# Altium footprint library ZERORULERV2.PcbLib: 78 footprints (part 5 of 5)
Each footprint in its own frame and in the unit in brackets; x right, y up, seen from the top. Pads: shape width x height; smd on the part's side, far side on the other; paste and mask are expansions set on the pad; w line width, h text height; cw(c..) or ccw(c..) is an arc to the next point about the centre after c.
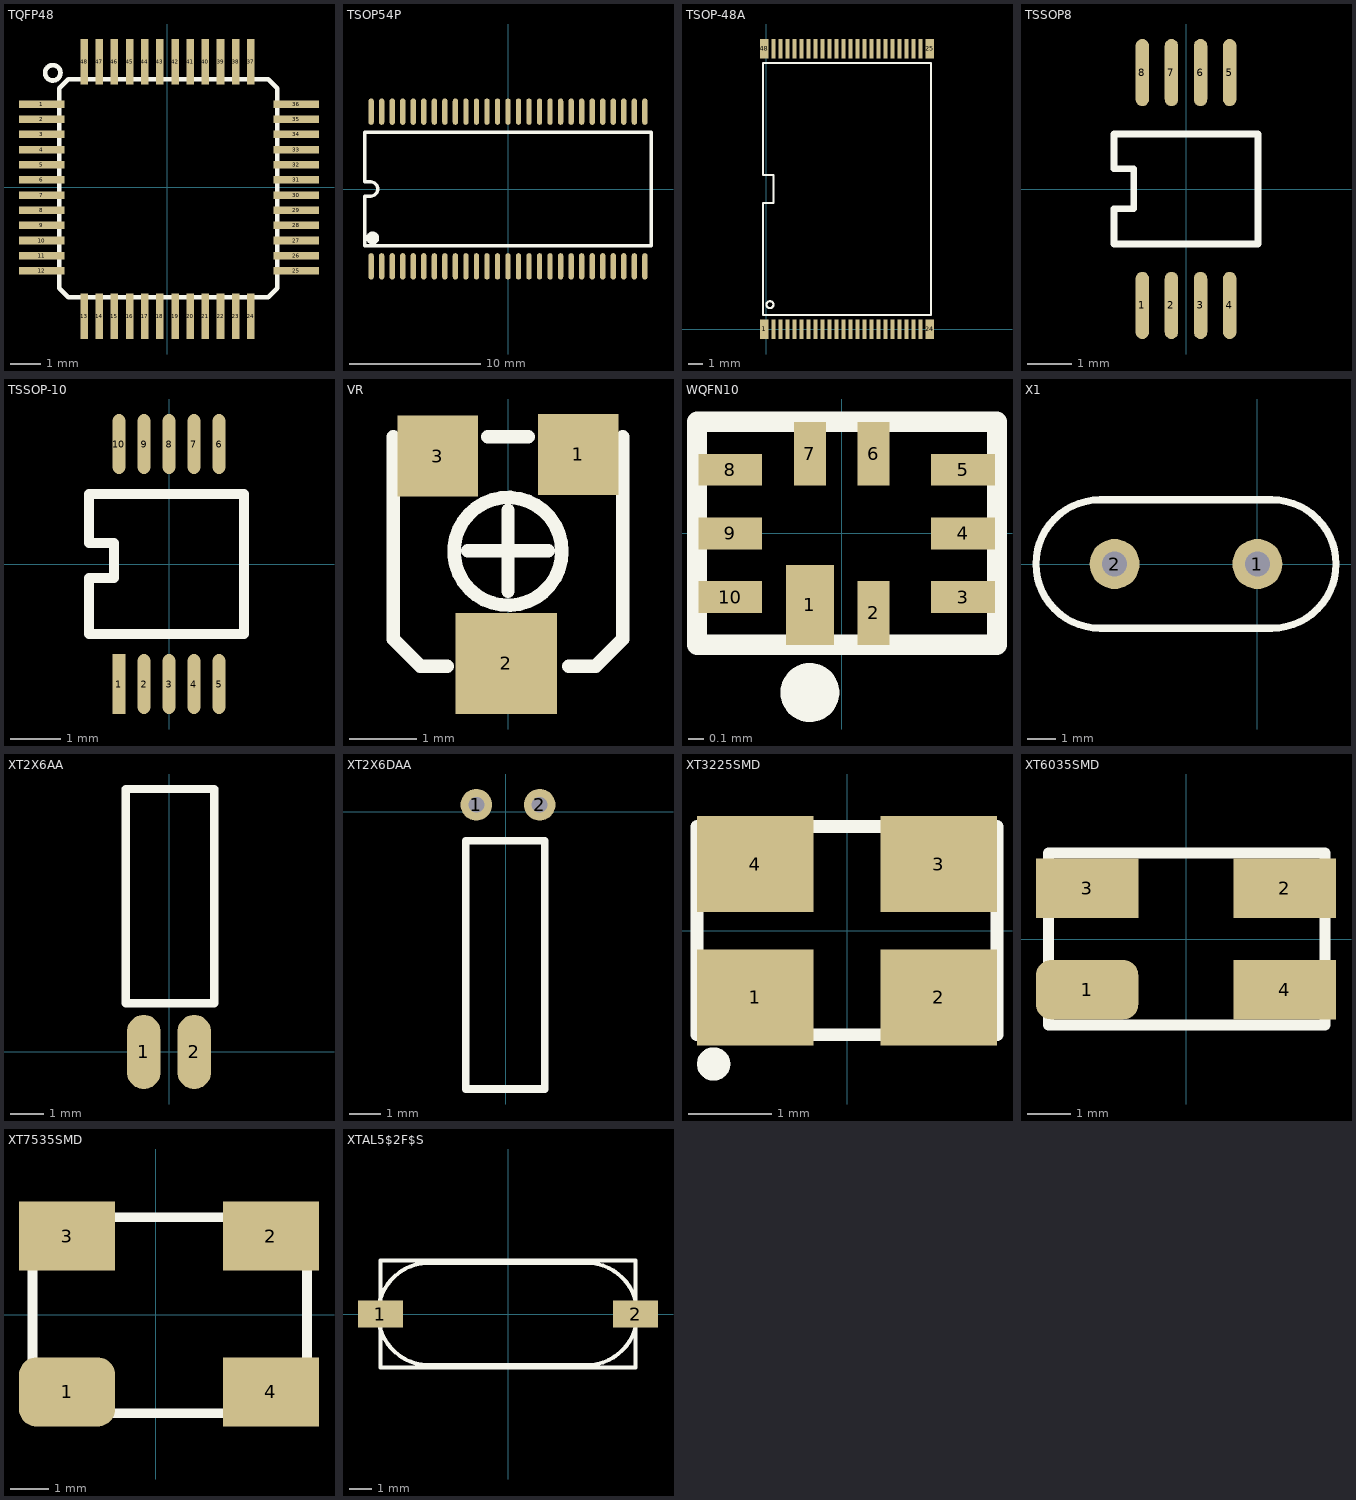
[diagram p4: the footprints below, top view; thin cyan lines are the x and y axes]

## TQFP48 [mm]
height 1.6
pads (48):
  rect 1.5x0.25 smd: 1(-4.15,2.75) 2(-4.15,2.25) 3(-4.15,1.75) 4(-4.15,1.25) 5(-4.15,0.75) 6(-4.15,0.25) 7(-4.15,-0.25) 8(-4.15,-0.75) 9(-4.15,-1.25) 10(-4.15,-1.75) 11(-4.15,-2.25) 12(-4.15,-2.75) 25(4.25,-2.75) 26(4.25,-2.25) 27(4.25,-1.75) 28(4.25,-1.25) 29(4.25,-0.75) 30(4.25,-0.25) 31(4.25,0.25) 32(4.25,0.75) 33(4.25,1.25) 34(4.25,1.75) 35(4.25,2.25) 36(4.25,2.75)
  rect 0.25x1.5 smd: 13(-2.75,-4.25) 14(-2.25,-4.25) 15(-1.75,-4.25) 16(-1.25,-4.25) 17(-0.75,-4.25) 18(-0.25,-4.25) 19(0.25,-4.25) 20(0.75,-4.25) 21(1.25,-4.25) 22(1.75,-4.25) 23(2.25,-4.25) 24(2.75,-4.25) 37(2.75,4.15) 38(2.25,4.15) 39(1.75,4.15) 40(1.25,4.15) 41(0.75,4.15) 42(0.25,4.15) 43(-0.25,4.15) 44(-0.75,4.15) 45(-1.25,4.15) 46(-1.75,4.15) 47(-2.25,4.15) 48(-2.75,4.15)
Top Overlay:
  circle w0.154: c-3.785,3.785 r0.254
  lines w0.152: -3.575,-3.325 -3.275,-3.625 3.325,-3.625 3.625,-3.325 3.625,3.275 3.325,3.575 -3.275,3.575 -3.575,3.275 -3.575,-3.325

## TSOP54P [mm]
pads (54):
  oval 0.4x2 smd: 1(-10.4,-5.88) 2(-9.6,-5.88) 3(-8.8,-5.88) 4(-8,-5.88) 5(-7.2,-5.88) 6(-6.4,-5.88) 7(-5.6,-5.88) 8(-4.8,-5.88) 9(-4,-5.88) 10(-3.2,-5.88) 11(-2.4,-5.88) 12(-1.6,-5.88) 13(-0.8,-5.88) 14(0,-5.88) 15(0.8,-5.88) 16(1.6,-5.88) 17(2.4,-5.88) 18(3.2,-5.88) 19(4,-5.88) 20(4.8,-5.88) 21(5.6,-5.88) 22(6.4,-5.88) 23(7.2,-5.88) 24(8,-5.88) 25(8.8,-5.88) 26(9.6,-5.88) 27(10.4,-5.88) 28(10.4,5.88) 29(9.6,5.88) 30(8.8,5.88) 31(8,5.88) 32(7.2,5.88) 33(6.4,5.88) 34(5.6,5.88) 35(4.8,5.88) 36(4,5.88) 37(3.2,5.88) 38(2.4,5.88) 39(1.6,5.88) 40(0.8,5.88) 41(0,5.88) 42(-0.8,5.88) 43(-1.6,5.88) 44(-2.4,5.88) 45(-3.2,5.88) 46(-4,5.88) 47(-4.8,5.88) 48(-5.6,5.88) 49(-6.4,5.88) 50(-7.2,5.88) 51(-8,5.88) 52(-8.8,5.88) 53(-9.6,5.88) 54(-10.4,5.88)
Top Overlay:
  circle w0.5: c-10.285,-3.73 r0.246
  lines w0.254: -10.41,0.54 cw(c-10.441,0) -10.409,-0.54 -10.9,-0.54 -10.9,-4.32 10.9,-4.32 10.9,4.32 -10.9,4.32 -10.9,0.54 -10.409,0.54

## TSOP-48A [mm]
pads (48):
  rect 0.6x1.4 smd: 1(-0.15,0) 24(11.65,0) 25(11.65,20) 48(-0.15,20)
  rect 0.3x1.4 smd: 2(0.5,0) 3(1,0) 4(1.5,0) 5(2,0) 6(2.5,0) 7(3,0) 8(3.5,0) 9(4,0) 10(4.5,0) 11(5,0) 12(5.5,0) 13(6,0) 14(6.5,0) 15(7,0) 16(7.5,0) 17(8,0) 18(8.5,0) 19(9,0) 20(9.5,0) 21(10,0) 22(10.5,0) 23(11,0) 26(11,20) 27(10.5,20) 28(10,20) 29(9.5,20) 30(9,20) 31(8.5,20) 32(8,20) 33(7.5,20) 34(7,20) 35(6.5,20) 36(6,20) 37(5.5,20) 38(5,20) 39(4.5,20) 40(4,20) 41(3.5,20) 42(3,20) 43(2.5,20) 44(2,20) 45(1.5,20) 46(1,20) 47(0.5,20)
Top Overlay:
  circle w0.15: c0.25,1.75 r0.25
  lines w0.15: -0.25,1 -0.25,9 0.5,9 0.5,11 -0.25,11 -0.25,19 11.75,19 11.75,1 -0.25,1

## TSSOP8 [mm]
height 1.1
pads (8):
  oval 0.3x1.5 smd: 1(-0.975,-2.6) 2(-0.325,-2.6) 3(0.325,-2.6) 4(0.975,-2.6) 5(0.975,2.6) 6(0.325,2.6) 7(-0.325,2.6) 8(-0.975,2.6)
Top Overlay:
  lines w0.15: -1.61,-1.23 -1.61,-0.44 -1.17,-0.44 -1.17,0.45 -1.61,0.45 -1.61,1.23 1.61,1.23 1.61,-1.23 -1.61,-1.23

## TSSOP-10 [mm]
pads (10):
  rect 0.254x1.2 smd: 1(-1,-2.4)
  oval 0.254x1.2 smd: 2(-0.5,-2.4) 3(0,-2.4) 4(0.5,-2.4) 5(1,-2.4) 6(1,2.4) 7(0.5,2.4) 8(0,2.4) 9(-0.5,2.4) 10(-1,2.4)
Top Overlay:
  lines w0.203: -1.6,-1.4 -1.6,-0.281 -1.097,-0.281 -1.097,0.417 -1.599,0.417 -1.599,1.4 1.5,1.4 1.5,-1.4 -1.6,-1.4

## VR [mm]
pads (3):
  rect 1.2x1.2 smd: 1(1.041,5.029) 3(-1.041,5.004)
  rect 1.5x1.5 smd: 2(-0.025,1.93)
Top Overlay:
  circle w0.2: c0,3.592 r0.8
  lines w0.2: -1.7,5.292 -1.7,2.292 -1.3,1.892 -0.9,1.892 ; -0.6,3.6 0.6,3.6 ; -0.3,5.292 0.3,5.292 ; 0,3 0,4.2 ; 0.9,1.892 1.3,1.892 1.7,2.292 1.7,5.292

## WQFN10 [mm]
height 0.8
pads (10):
  rect 0.3x0.5 smd: 1(-0.2,-0.45)
  rect 0.2x0.4 smd: 2(0.2,-0.5) 6(0.2,0.5) 7(-0.2,0.5)
  rect 0.4x0.2 smd: 3(0.762,-0.4) 4(0.762,0) 5(0.762,0.4) 8(-0.7,0.4) 9(-0.7,0) 10(-0.7,-0.4)
Top Overlay:
  circle w0.2: c-0.2,-1 r0.085
  lines w0.128: -0.909,-0.7 0.975,-0.7 0.975,0.7 -0.909,0.7 -0.909,-0.7

## X1 [mil]
pads (2):
  round 70 hole 35: 1(0,0) 2(-200,0)
Top Overlay:
  lines w10: -220,-90 cw(c-220,0) -220,90 20,90 cw(c20,0) 20,-90 -220,-90

## XT2X6AA [mil]
height 86.61
pads (2):
  oval 40x88 smd: 1(-30,-0.26) 2(30,-0.26)
Top Overlay:
  lines w10: -51.47,57.84 53.63,57.84 53.63,312.36 -51.47,312.36 -51.47,57.84

## XT2X6DAA [mil]
height 86.61
pads (2):
  round 40 hole 20: 1(-37.3,8.47) 2(42.7,8.47)
Top Overlay:
  lines w10: -50.78,-351.11 49.22,-351.11 49.22,-37.01 -50.78,-37.01 -50.78,-351.11

## XT3225SMD [mm]
height 0.6
pads (4):
  rect 1.4x1.15 smd: 1(-1.1,-0.8) 2(1.1,-0.8) 3(1.1,0.8) 4(-1.1,0.8)
Top Overlay:
  circle w0.2: c-1.6,-1.6 r0.1
  lines w0.15: -1.8,-1.25 1.8,-1.25 1.8,1.25 -1.8,1.25 -1.8,-1.25

## XT6035SMD [mm]
height 1
pads (4):
  rrect50% 2.38x1.38 smd: 1(-2.3,-1.18)
  rect 2.38x1.38 smd: 2(2.3,1.18) 3(-2.3,1.18) 4(2.3,-1.18)
Top Overlay:
  lines w0.254: 3.2,-2 -3.2,-2 -3.2,2 3.2,2 ; 3.23,-2 3.23,2

## XT7535SMD [mm]
height 1.3
pads (4):
  rrect50% 2.5x1.8 smd: 1(-2.3,-2)
  rect 2.5x1.8 smd: 2(3,2.05) 3(-2.3,2.05) 4(3,-2)
Top Overlay:
  lines w0.254: 3.872,-2.555 -3.2,-2.555 -3.2,2.542 3.933,2.542 ; 3.939,-2.57 3.939,2.529

## XTAL5$2F$S [mm]
pads (2):
  rect 2x1.2 smd: 1(-5.7,0) 2(5.7,0)
Top Overlay:
  lines w0.178: -5.7,-2.4 5.7,-2.4 5.7,2.4 -5.7,2.4 -5.7,-2.4 ; -3.6,-2.286 cw(c-3.512,0) -3.6,2.286 3.496,2.286 cw(c3.496,0) 3.496,-2.286 -3.6,-2.286